# Altium schematic symbol library XT60.SchLib: 1 symbol
Pins are listed as number, name and electrical type; pins without a type are passive.

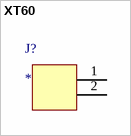
[diagram p0: symbol XT60]

## XT60
designator J?
pins: 1, 2